# Altium footprint library SDK-052D.PcbLib: 1 footprints
Each footprint in its own frame and in the unit in brackets; x right, y up, seen from the top. Pads: shape width x height; smd on the part's side, far side on the other; paste and mask are expansions set on the pad; w line width, h text height; cw(c..) or ccw(c..) is an arc to the next point about the centre after c.
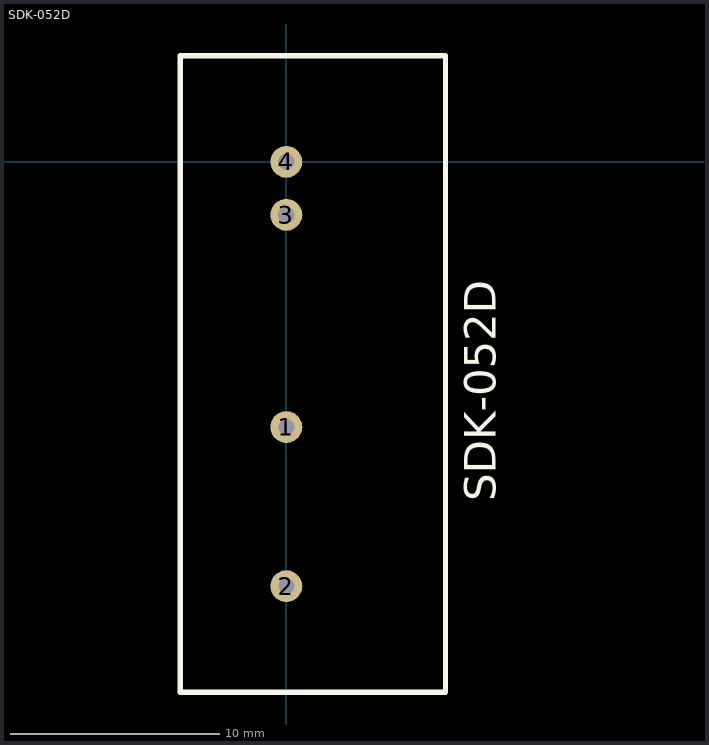
[diagram p0: the footprint, top view; thin cyan lines are the x and y axes]

## SDK-052D [mil]
pads (4):
  round 60 hole 30: 1(0,-500) 2(0,-800)
  round 60 hole 31.5: 3(0,-100) 4(0,0)
Top Overlay:
  lines w10: 300,-1000 -200,-1000 -200,200 300,200 300,-1000 ; 300,-1000 300,-1000
  text "SDK-052D" at 395,-640 h60